# EAGLE library part INA181*I? (library kiks-ic)
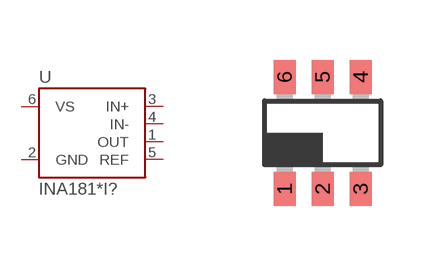
[diagram p23: symbol with the pads of SOT23-6; footprint SOT23-6]

Designator prefix U

## INA181A1IDBV (GAIN: 20), INA181A2IDBV (GAIN: 50), INA181A3IDBV (GAIN: 100), INA181A4IDBV (GAIN: 200)  [SOT23-6]
1  OUT
2  GND
3  IN+
4  IN-
5  REF
6  VS

## Footprint SOT23-6 (pad centres in mm)
smd 0.55 x 0.85: 1 -0.95,-1.4; 2 0,-1.4; 3 0.95,-1.4; 4 0.95,1.4; 5 0,1.4; 6 -0.95,1.4